# EAGLE library part MC14521BCPG (library ON Semiconductor_By_element14_Batch_1)
24-Stage Frequency Divider
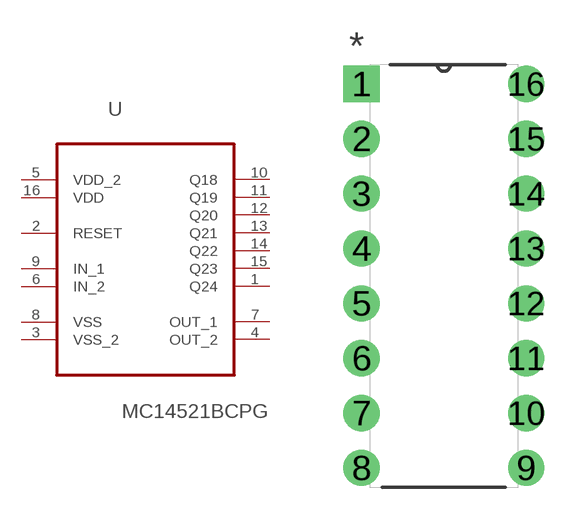
[diagram p284: symbol with the pads of DIP254P762X444-16; footprint DIP254P762X444-16]

Designator prefix U

## MC14521BCPG (MPN: MC14521BCPG; OC_FARNELL: 9664793; OC_NEWARK: 45J1112; PACKAGE: PDIP-16; SUPPLIER: On semiconductors)  [DIP254P762X444-16]
1  Q24  out
2  RESET  in
3  VSS_2  pwr
4  OUT_2  out
5  VDD_2  pwr
6  IN_2  in
7  OUT_1  out
8  VSS  pwr
9  IN_1  in
10  Q18  out
11  Q19  out
12  Q20  out
13  Q21  out
14  Q22  out
15  Q23  out
16  VDD  pwr

## Footprint DIP254P762X444-16 (pad centres in mm)
drill 1.118 square: 1 -7.62,17.78
drill 1.118: 2 -7.62,15.24; 3 -7.62,12.7; 4 -7.62,10.16; 5 -7.62,7.62; 6 -7.62,5.08; 7 -7.62,2.54; 8 -7.62,0; 9 0,0; 10 0,2.54; 11 0,5.08; 12 0,7.62; 13 0,10.16; 14 0,12.7; 15 0,15.24; 16 0,17.78